# Altium schematic symbol library WA3-220S05A3.SchLib: 1 symbol
Pins are listed as number, name and electrical type; pins without a type are passive.

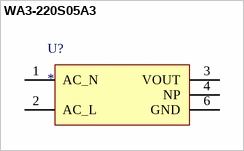
[diagram p0: symbol WA3-220S05A3]

## WA3-220S05A3
designator U?
Datasheet: http://www.aipu-elec.com/pdf/WA3WA3.pdf
pins: 1 AC_N, 2 AC_L, 3 VOUT, 4 NP, 6 GND